# EAGLE library part MAX7313ATG (library SPCoast)
16-Port I/O Expander with LED Intensity Control, Interrupt, and Hot-Insertion Protection
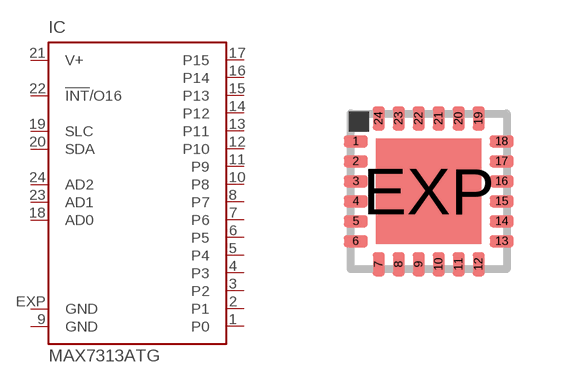
[diagram p63: symbol with the pads of TQFN24-EP; footprint TQFN24-EP]

Designator prefix IC

## MAX7313ATG-13ATG (MF: MAXIM; MPN: MAX7313ATG; OC_FARNELL: unknown; OC_NEWARK: 87H1899)  [TQFN24-EP]
1  P0
2  P1
3  P2
4  P3
5  P4
6  P5
7  P6
8  P7
9  GND  pwr
10  P8
11  P9
12  P10
13  P11
14  P12
15  P13
16  P14
17  P15
18  AD0  in
19  SLC  in
20  SDA
21  V+  pwr
22  !INT!/O16  oc
23  AD1  in
24  AD2  in
EXP  GND  pwr

## Footprint TQFN24-EP (pad centres in mm)
24 TQFN-EP 24 T2444-4 MAX4947-MAX4948
smd 0.6 x 0.3: 1 -1.825,1.25; 2 -1.825,0.75; 3 -1.825,0.25; 4 -1.825,-0.25; 5 -1.825,-0.75; 6 -1.825,-1.25; 13 1.825,-1.25; 14 1.825,-0.75; 15 1.825,-0.25; 16 1.825,0.25; 17 1.825,0.75; 18 1.825,1.25
smd 0.3 x 0.6: 7 -1.25,-1.825; 8 -0.75,-1.825; 9 -0.25,-1.825; 10 0.25,-1.825; 11 0.75,-1.825; 12 1.25,-1.825; 19 1.25,1.825; 20 0.75,1.825; 21 0.25,1.825; 22 -0.25,1.825; 23 -0.75,1.825; 24 -1.25,1.825
smd 2.63 x 2.63: EXP 0,0